# Altium footprint library SMA.PcbLib: 1 footprints
Each footprint in its own frame and in the unit in brackets; x right, y up, seen from the top. Pads: shape width x height; smd on the part's side, far side on the other; paste and mask are expansions set on the pad; w line width, h text height; cw(c..) or ccw(c..) is an arc to the next point about the centre after c.
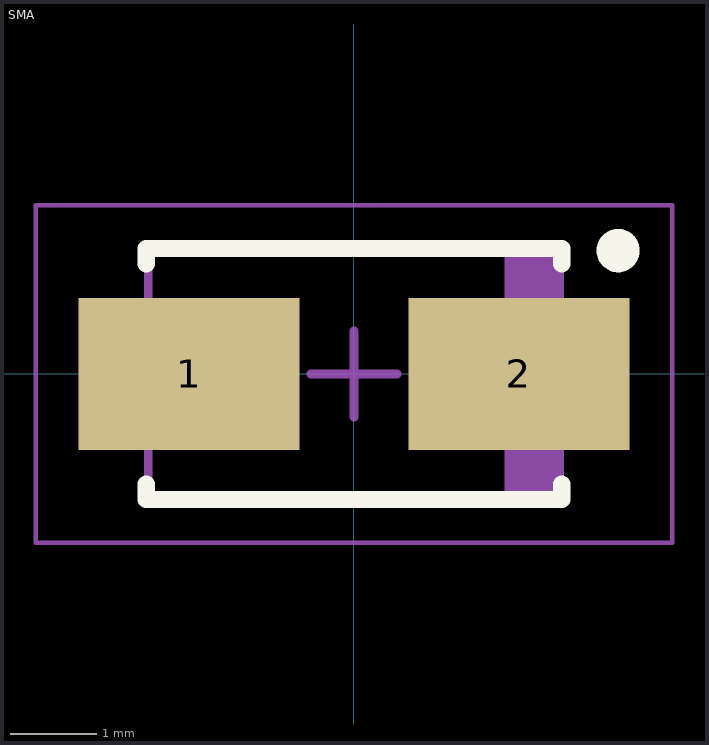
[diagram p0: the footprint, top view; thin cyan lines are the x and y axes]

## SMA [mm] "Molded Diode, 2-Leads, Body 4.37x2.62mm, IPC Low Density"
height 2.95
pads (2):
  rect 2.55x1.75 smd: 1(-1.905,0) 2(1.905,0)
Top Overlay:
  circle w0.25: c3.05,1.425 r0.125
  lines w0.2: -2.4,-1.275 -2.4,-1.45 2.4,-1.45 2.4,-1.275 ; -2.4,1.275 -2.4,1.45 2.4,1.45 2.4,1.275
Mechanical 13:
  rectangle: 1.736,-1.42 2.375,1.42
  lines w0.1: -2.375,-1.42 2.375,-1.42 2.375,1.42 -2.375,1.42 -2.375,-1.42
Mechanical 15:
  lines w0.05: -3.675,-1.95 3.675,-1.95 3.675,1.95 -3.675,1.95 -3.675,-1.95
  lines w0.1: -0.5,0 0.5,0 ; 0,-0.5 0,0.5
3D body "SMA.step": height 2.95, standoff 0, extent -2.595,-1.42 2.595,1.42